# Altium footprint library WSON-12Lib.PcbLib: 1 footprints
Each footprint in its own frame and in the unit in brackets; x right, y up, seen from the top. Pads: shape width x height; smd on the part's side, far side on the other; paste and mask are expansions set on the pad; w line width, h text height; cw(c..) or ccw(c..) is an arc to the next point about the centre after c.
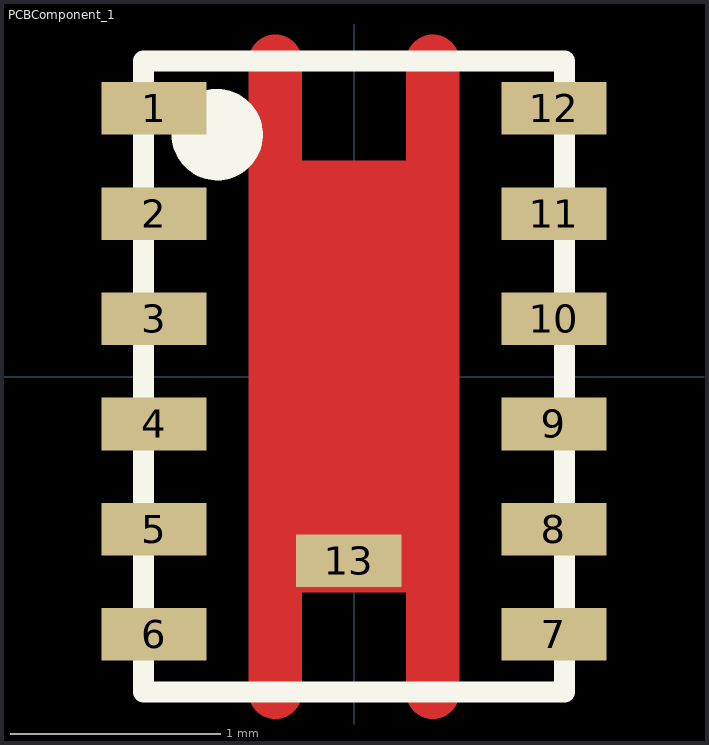
[diagram p0: the footprint, top view; thin cyan lines are the x and y axes]

## PCBComponent_1 [mm]
pads (13):
  rect 0.5x0.25 smd: 1(-0.95,1.275) 2(-0.95,0.775) 3(-0.95,0.275) 4(-0.95,-0.225) 5(-0.95,-0.725) 6(-0.95,-1.225) 7(0.95,-1.225) 8(0.95,-0.725) 9(0.95,-0.225) 10(0.95,0.275) 11(0.95,0.775) 12(0.95,1.275) 13(-0.025,-0.875)
Top Layer:
  rectangle: -0.325,-0.9 0.325,0.9
  lines w0.254: -0.375,-1.5 -0.375,1.5 ; -0.375,-0.9 0.375,-0.9 ; -0.325,0.9 0.25,0.9 ; 0.375,-1.5 0.375,1.5
Top Overlay:
  circle w0.254: c-0.65,1.15 r0.09
  lines w0.1: -1,-1.5 1,-1.5 1,1.5 -1,1.5 -1,-1.5